# Altium footprint library Molex Footprints.PcbLib: 498 footprints (part 11 of 32)
Each footprint in its own frame and in the unit in brackets; x right, y up, seen from the top. Pads: shape width x height; smd on the part's side, far side on the other; paste and mask are expansions set on the pad; w line width, h text height; cw(c..) or ccw(c..) is an arc to the next point about the centre after c.
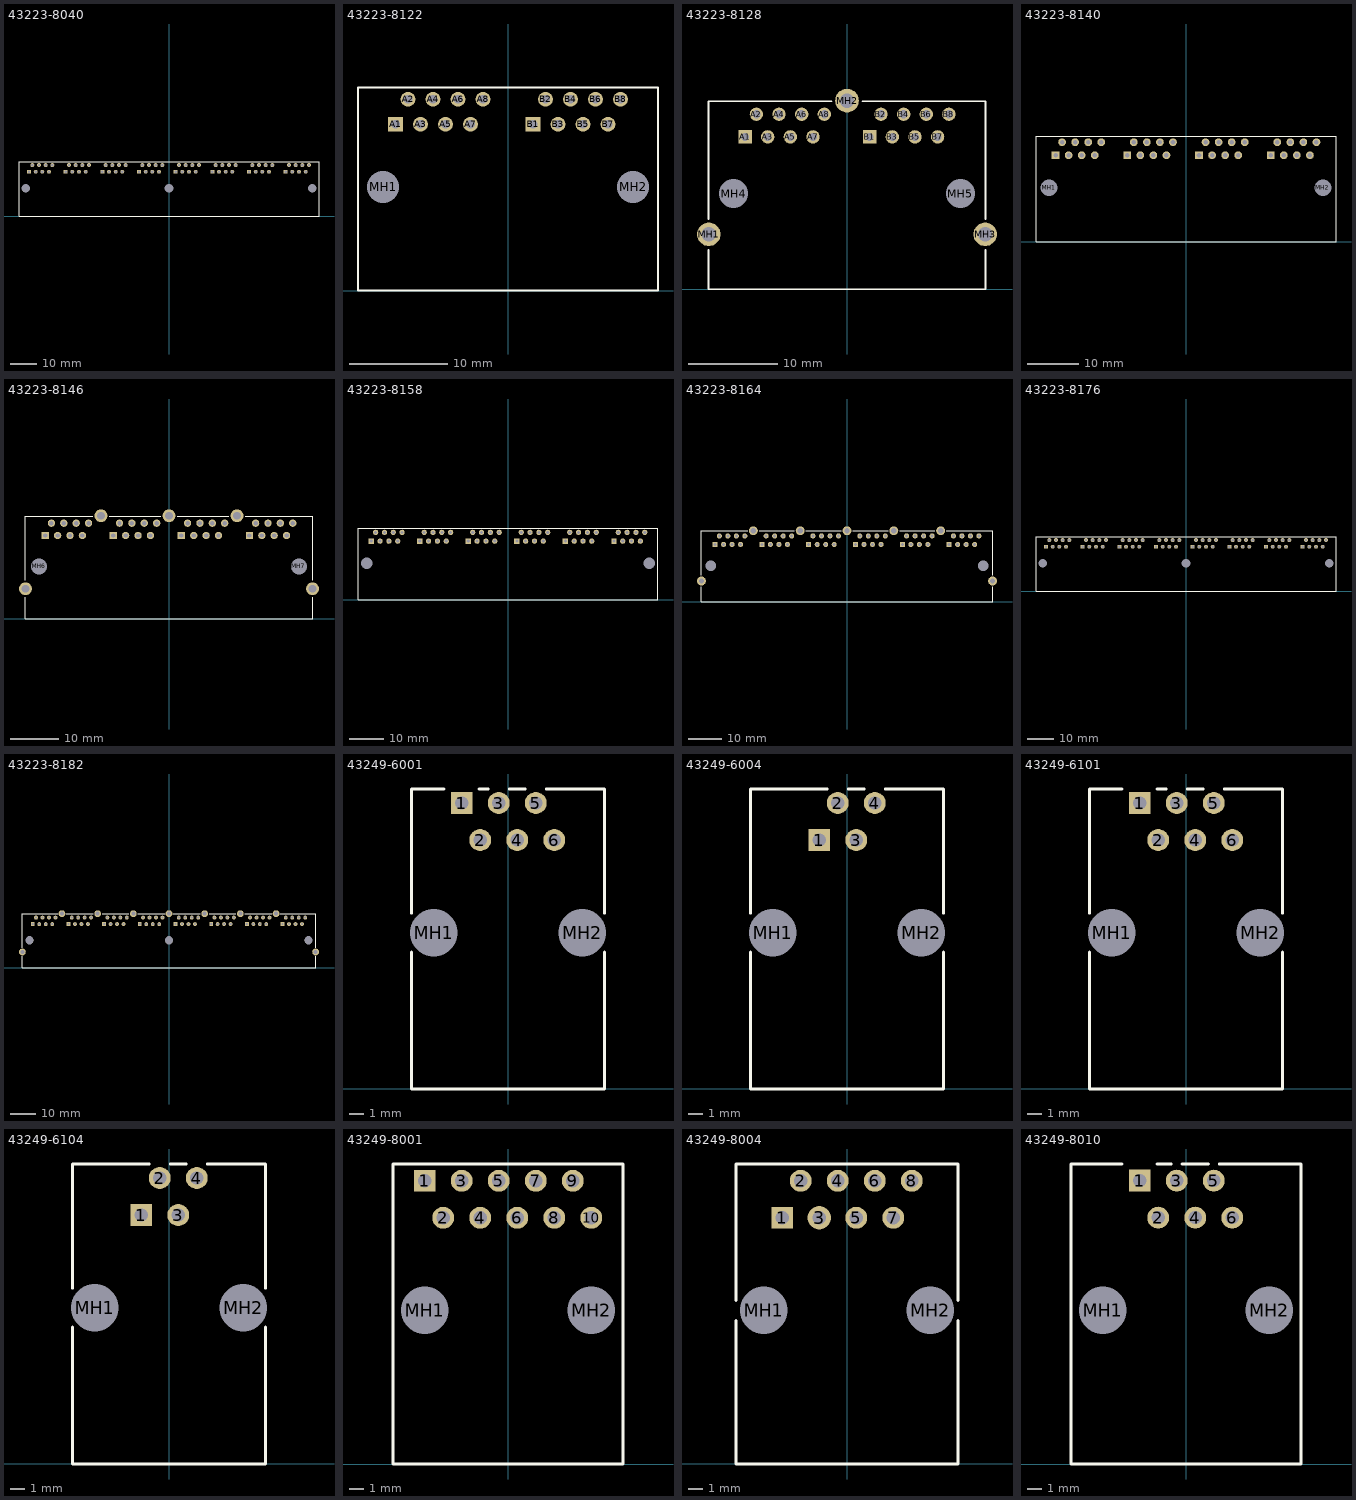
[diagram p10: the footprints below, top view; thin cyan lines are the x and y axes]

## 43223-8040 [mm] "Connector; PCB Jack, Thru-Hole; 8-Port, 8 Positions, 8 Loaded; Unshielded without Lightpipes; Right Angle"
height 12.83
pads (67):
  rect 1.5x1.5 hole 0.9: A1(-53.34,16.89) B1(-39.37,16.89) C1(-25.4,16.89) D1(-11.43,16.89) E1(2.54,16.89) F1(16.51,16.89) G1(30.48,16.89) H1(44.45,16.89)
  round 1.5 hole 0.9: A2(-52.07,19.43) A3(-50.8,16.89) A4(-49.53,19.43) A5(-48.26,16.89) A6(-46.99,19.43) A7(-45.72,16.89) A8(-44.45,19.43) B2(-38.1,19.43) B3(-36.83,16.89) B4(-35.56,19.43) B5(-34.29,16.89) B6(-33.02,19.43) B7(-31.75,16.89) B8(-30.48,19.43) C2(-24.13,19.43) C3(-22.86,16.89) C4(-21.59,19.43) C5(-20.32,16.89) C6(-19.05,19.43) C7(-17.78,16.89) C8(-16.51,19.43) D2(-10.16,19.43) D3(-8.89,16.89) D4(-7.62,19.43) D5(-6.35,16.89) D6(-5.08,19.43) D7(-3.81,16.89) D8(-2.54,19.43) E2(3.81,19.43) E3(5.08,16.89) E4(6.35,19.43) E5(7.62,16.89) E6(8.89,19.43) E7(10.16,16.89) E8(11.43,19.43) F2(17.78,19.43) F3(19.05,16.89) F4(20.32,19.43) F5(21.59,16.89) F6(22.86,19.43) F7(24.13,16.89) F8(25.4,19.43) G2(31.75,19.43) G3(33.02,16.89) G4(34.29,19.43) G5(35.56,16.89) G6(36.83,19.43) G7(38.1,16.89) G8(39.37,19.43) H2(45.72,19.43) H3(46.99,16.89) H4(48.26,19.43) H5(49.53,16.89) H6(50.8,19.43) H7(52.07,16.89) H8(53.34,19.43)
  round 2.95 hole 3.25 unplated: MH1(-54.61,10.54) MH2(0,10.54) MH3(54.61,10.54)
Top Overlay:
  lines w0.2: -57.15,0 57.15,0 57.15,20.63 -57.15,20.63 -57.15,0

## 43223-8122 [mm] "Connector; PCB Jack, Thru-Hole; 2-Port, 8 Positions, 8 Loaded; Unshielded without Lightpipes; Right Angle"
height 12.83
pads (18):
  rect 1.5x1.5 hole 0.9: A1(-11.43,16.89) B1(2.54,16.89)
  round 1.5 hole 0.9: A2(-10.16,19.43) A3(-8.89,16.89) A4(-7.62,19.43) A5(-6.35,16.89) A6(-5.08,19.43) A7(-3.81,16.89) A8(-2.54,19.43) B2(3.81,19.43) B3(5.08,16.89) B4(6.35,19.43) B5(7.62,16.89) B6(8.89,19.43) B7(10.16,16.89) B8(11.43,19.43)
  round 2.95 hole 3.25 unplated: MH1(-12.7,10.54) MH2(12.7,10.54)
Top Overlay:
  lines w0.2: -15.24,0 15.24,0 15.24,20.63 -15.24,20.63 -15.24,0

## 43223-8128 [mm] "Connector; PCB Jack, Thru-Hole; 2-Port, 8 Positions, 8 Loaded; Shielded without Lightpipes; Right Angle"
height 13.3
pads (21):
  rect 1.5x1.5 hole 0.9: A1(-11.43,17.07) B1(2.54,17.07)
  round 1.5 hole 0.9: A2(-10.16,19.61) A3(-8.89,17.07) A4(-7.62,19.61) A5(-6.35,17.07) A6(-5.08,19.61) A7(-3.81,17.07) A8(-2.54,19.61) B2(3.81,19.61) B3(5.08,17.07) B4(6.35,19.61) B5(7.62,17.07) B6(8.89,19.61) B7(10.16,17.07) B8(11.43,19.61)
  round 2.65 hole 1.6: MH1(-15.494,6.148) MH2(0,21.134) MH3(15.494,6.148)
  round 2.95 hole 3.25 unplated: MH4(-12.7,10.72) MH5(12.7,10.72)
Top Overlay:
  lines w0.2: -15.545,4.423 -15.545,0 15.545,0 15.545,4.423 ; -15.545,7.873 -15.545,21.08 -1.724,21.08 ; 1.724,21.08 15.545,21.08 15.545,7.873

## 43223-8140 [mm] "Connector; PCB Jack, Thru-Hole; 4-Port, 8 Positions, 8 Loaded; Unshielded without Lightpipes; Right Angle"
height 12.83
pads (34):
  rect 1.5x1.5 hole 0.9: A1(-25.4,16.89) B1(-11.43,16.89) C1(2.54,16.89) D1(16.51,16.89)
  round 1.5 hole 0.9: A2(-24.13,19.43) A3(-22.86,16.89) A4(-21.59,19.43) A5(-20.32,16.89) A6(-19.05,19.43) A7(-17.78,16.89) A8(-16.51,19.43) B2(-10.16,19.43) B3(-8.89,16.89) B4(-7.62,19.43) B5(-6.35,16.89) B6(-5.08,19.43) B7(-3.81,16.89) B8(-2.54,19.43) C2(3.81,19.43) C3(5.08,16.89) C4(6.35,19.43) C5(7.62,16.89) C6(8.89,19.43) C7(10.16,16.89) C8(11.43,19.43) D2(17.78,19.43) D3(19.05,16.89) D4(20.32,19.43) D5(21.59,16.89) D6(22.86,19.43) D7(24.13,16.89) D8(25.4,19.43)
  round 2.95 hole 3.25 unplated: MH1(-26.67,10.54) MH2(26.67,10.54)
Top Overlay:
  lines w0.2: -29.21,0 29.21,0 29.21,20.63 -29.21,20.63 -29.21,0

## 43223-8146 [mm] "Connector; PCB Jack, Thru-Hole; 4-Port, 8 Positions, 8 Loaded; Shielded without Lightpipes; Right Angle"
height 13.3
pads (39):
  rect 1.5x1.5 hole 0.9: A1(-25.4,17.07) B1(-11.43,17.07) C1(2.54,17.07) D1(16.51,17.07)
  round 1.5 hole 0.9: A2(-24.13,19.61) A3(-22.86,17.07) A4(-21.59,19.61) A5(-20.32,17.07) A6(-19.05,19.61) A7(-17.78,17.07) A8(-16.51,19.61) B2(-10.16,19.61) B3(-8.89,17.07) B4(-7.62,19.61) B5(-6.35,17.07) B6(-5.08,19.61) B7(-3.81,17.07) B8(-2.54,19.61) C2(3.81,19.61) C3(5.08,17.07) C4(6.35,19.61) C5(7.62,17.07) C6(8.89,19.61) C7(10.16,17.07) C8(11.43,19.61) D2(17.78,19.61) D3(19.05,17.07) D4(20.32,19.61) D5(21.59,17.07) D6(22.86,19.61) D7(24.13,17.07) D8(25.4,19.61)
  round 2.65 hole 1.6: MH1(-29.464,6.148) MH2(-13.97,21.134) MH3(0,21.134) MH4(13.97,21.134) MH5(29.464,6.148)
  round 2.95 hole 3.25 unplated: MH6(-26.67,10.72) MH7(26.67,10.72)
Top Overlay:
  lines w0.2: -29.515,4.423 -29.515,0 29.515,0 29.515,4.423 ; -29.515,7.873 -29.515,21.08 -15.694,21.08 ; -12.246,21.08 -1.724,21.08 ; 1.724,21.08 12.246,21.08 ; 15.694,21.08 29.515,21.08 29.515,7.873

## 43223-8158 [mm] "Connector; PCB Jack, Thru-Hole; 6-Port, 8 Positions, 8 Loaded; Unshielded without Lightpipes; Right Angle"
height 12.83
pads (50):
  rect 1.5x1.5 hole 0.9: A1(-39.37,16.89) B1(-25.4,16.89) C1(-11.43,16.89) D1(2.54,16.89) E1(16.51,16.89) F1(30.48,16.89)
  round 1.5 hole 0.9: A2(-38.1,19.43) A3(-36.83,16.89) A4(-35.56,19.43) A5(-34.29,16.89) A6(-33.02,19.43) A7(-31.75,16.89) A8(-30.48,19.43) B2(-24.13,19.43) B3(-22.86,16.89) B4(-21.59,19.43) B5(-20.32,16.89) B6(-19.05,19.43) B7(-17.78,16.89) B8(-16.51,19.43) C2(-10.16,19.43) C3(-8.89,16.89) C4(-7.62,19.43) C5(-6.35,16.89) C6(-5.08,19.43) C7(-3.81,16.89) C8(-2.54,19.43) D2(3.81,19.43) D3(5.08,16.89) D4(6.35,19.43) D5(7.62,16.89) D6(8.89,19.43) D7(10.16,16.89) D8(11.43,19.43) E2(17.78,19.43) E3(19.05,16.89) E4(20.32,19.43) E5(21.59,16.89) E6(22.86,19.43) E7(24.13,16.89) E8(25.4,19.43) F2(31.75,19.43) F3(33.02,16.89) F4(34.29,19.43) F5(35.56,16.89) F6(36.83,19.43) F7(38.1,16.89) F8(39.37,19.43)
  round 2.95 hole 3.25 unplated: MH1(-40.64,10.54) MH2(40.64,10.54)
Top Overlay:
  lines w0.2: -43.18,0 43.18,0 43.18,20.63 -43.18,20.63 -43.18,0

## 43223-8164 [mm] "Connector; PCB Jack, Thru-Hole; 6-Port, 8 Positions, 8 Loaded; Shielded without Lightpipes; Right Angle"
height 13.3
pads (57):
  rect 1.5x1.5 hole 0.9: A1(-39.37,17.07) B1(-25.4,17.07) C1(-11.43,17.07) D1(2.54,17.07) E1(16.51,17.07) F1(30.48,17.07)
  round 1.5 hole 0.9: A2(-38.1,19.61) A3(-36.83,17.07) A4(-35.56,19.61) A5(-34.29,17.07) A6(-33.02,19.61) A7(-31.75,17.07) A8(-30.48,19.61) B2(-24.13,19.61) B3(-22.86,17.07) B4(-21.59,19.61) B5(-20.32,17.07) B6(-19.05,19.61) B7(-17.78,17.07) B8(-16.51,19.61) C2(-10.16,19.61) C3(-8.89,17.07) C4(-7.62,19.61) C5(-6.35,17.07) C6(-5.08,19.61) C7(-3.81,17.07) C8(-2.54,19.61) D2(3.81,19.61) D3(5.08,17.07) D4(6.35,19.61) D5(7.62,17.07) D6(8.89,19.61) D7(10.16,17.07) D8(11.43,19.61) E2(17.78,19.61) E3(19.05,17.07) E4(20.32,19.61) E5(21.59,17.07) E6(22.86,19.61) E7(24.13,17.07) E8(25.4,19.61) F2(31.75,19.61) F3(33.02,17.07) F4(34.29,19.61) F5(35.56,17.07) F6(36.83,19.61) F7(38.1,17.07) F8(39.37,19.61)
  round 2.65 hole 1.6: MH1(-43.434,6.148) MH2(-27.94,21.134) MH3(-13.97,21.134) MH4(0,21.134) MH5(13.97,21.134) MH6(27.94,21.134) MH7(43.434,6.148)
  round 2.95 hole 3.25 unplated: MH8(-40.64,10.72) MH9(40.64,10.72)
Top Overlay:
  lines w0.2: -43.485,4.423 -43.485,0 43.485,0 43.485,4.423 ; -43.485,7.873 -43.485,21.08 -29.664,21.08 ; -26.216,21.08 -15.694,21.08 ; -12.246,21.08 -1.724,21.08 ; 1.724,21.08 12.246,21.08 ; 15.694,21.08 26.216,21.08 ; 29.664,21.08 43.485,21.08 43.485,7.873

## 43223-8176 [mm] "Connector; PCB Jack, Thru-Hole; 8-Port, 8 Positions, 8 Loaded; Unshielded without Lightpipes; Right Angle"
height 12.83
pads (67):
  rect 1.5x1.5 hole 0.9: A1(-53.34,16.89) B1(-39.37,16.89) C1(-25.4,16.89) D1(-11.43,16.89) E1(2.54,16.89) F1(16.51,16.89) G1(30.48,16.89) H1(44.45,16.89)
  round 1.5 hole 0.9: A2(-52.07,19.43) A3(-50.8,16.89) A4(-49.53,19.43) A5(-48.26,16.89) A6(-46.99,19.43) A7(-45.72,16.89) A8(-44.45,19.43) B2(-38.1,19.43) B3(-36.83,16.89) B4(-35.56,19.43) B5(-34.29,16.89) B6(-33.02,19.43) B7(-31.75,16.89) B8(-30.48,19.43) C2(-24.13,19.43) C3(-22.86,16.89) C4(-21.59,19.43) C5(-20.32,16.89) C6(-19.05,19.43) C7(-17.78,16.89) C8(-16.51,19.43) D2(-10.16,19.43) D3(-8.89,16.89) D4(-7.62,19.43) D5(-6.35,16.89) D6(-5.08,19.43) D7(-3.81,16.89) D8(-2.54,19.43) E2(3.81,19.43) E3(5.08,16.89) E4(6.35,19.43) E5(7.62,16.89) E6(8.89,19.43) E7(10.16,16.89) E8(11.43,19.43) F2(17.78,19.43) F3(19.05,16.89) F4(20.32,19.43) F5(21.59,16.89) F6(22.86,19.43) F7(24.13,16.89) F8(25.4,19.43) G2(31.75,19.43) G3(33.02,16.89) G4(34.29,19.43) G5(35.56,16.89) G6(36.83,19.43) G7(38.1,16.89) G8(39.37,19.43) H2(45.72,19.43) H3(46.99,16.89) H4(48.26,19.43) H5(49.53,16.89) H6(50.8,19.43) H7(52.07,16.89) H8(53.34,19.43)
  round 2.95 hole 3.25 unplated: MH1(-54.61,10.54) MH2(0,10.54) MH3(54.61,10.54)
Top Overlay:
  lines w0.2: -57.15,0 57.15,0 57.15,20.63 -57.15,20.63 -57.15,0

## 43223-8182 [mm] "Connector; PCB Jack, Thru-Hole; 8-Port, 8 Positions, 8 Loaded; Shielded without Lightpipes; Right Angle"
height 13.3
pads (76):
  rect 1.5x1.5 hole 0.9: A1(-53.34,17.07) B1(-39.37,17.07) C1(-25.4,17.07) D1(-11.43,17.07) E1(2.54,17.07) F1(16.51,17.07) G1(30.48,17.07) H1(44.45,17.07)
  round 1.6 hole 0.9: A2(-52.07,19.61)
  round 1.5 hole 0.9: A3(-50.8,17.07) A4(-49.53,19.61) A5(-48.26,17.07) A6(-46.99,19.61) A7(-45.72,17.07) A8(-44.45,19.61) B2(-38.1,19.61) B3(-36.83,17.07) B4(-35.56,19.61) B5(-34.29,17.07) B6(-33.02,19.61) B7(-31.75,17.07) B8(-30.48,19.61) C2(-24.13,19.61) C3(-22.86,17.07) C4(-21.59,19.61) C5(-20.32,17.07) C6(-19.05,19.61) C7(-17.78,17.07) C8(-16.51,19.61) D2(-10.16,19.61) D3(-8.89,17.07) D4(-7.62,19.61) D5(-6.35,17.07) D6(-5.08,19.61) D7(-3.81,17.07) D8(-2.54,19.61) E2(3.81,19.61) E3(5.08,17.07) E4(6.35,19.61) E5(7.62,17.07) E6(8.89,19.61) E7(10.16,17.07) E8(11.43,19.61) F2(17.78,19.61) F3(19.05,17.07) F4(20.32,19.61) F5(21.59,17.07) F6(22.86,19.61) F7(24.13,17.07) F8(25.4,19.61) G2(31.75,19.61) G3(33.02,17.07) G4(34.29,19.61) G5(35.56,17.07) G6(36.83,19.61) G7(38.1,17.07) G8(39.37,19.61) H2(45.72,19.61) H3(46.99,17.07) H4(48.26,19.61) H5(49.53,17.07) H6(50.8,19.61) H7(52.07,17.07) H8(53.34,19.61)
  round 2.65 hole 1.6: MH1(-57.404,6.148) MH2(-41.91,21.134) MH3(-27.94,21.134) MH4(-13.97,21.134) MH5(0,21.134) MH6(13.97,21.134) MH7(27.94,21.134) MH8(41.91,21.134) MH9(57.404,6.148)
  round 2.95 hole 3.25 unplated: MH10(-54.61,10.72) MH11(0,10.72) MH12(54.61,10.72)
Top Overlay:
  lines w0.2: -57.455,4.423 -57.455,0 57.455,0 57.455,4.423 ; -57.455,7.873 -57.455,21.08 -43.634,21.08 ; -40.186,21.08 -29.664,21.08 ; -26.216,21.08 -15.694,21.08 ; -12.246,21.08 -1.724,21.08 ; 1.724,21.08 12.246,21.08 ; 15.694,21.08 26.216,21.08 ; 29.664,21.08 40.186,21.08 ; 43.634,21.08 57.455,21.08 57.455,7.873

## 43249-6001 [mm] "Connector; PCB Jack, Thru-Hole; 1-Port, 6 Positions, 6 Loaded; Unshielded without Lightpipes; Right Angle"
height 12.83
pads (8):
  rect 1.5x1.5 hole 0.9: 1(-3.175,19.61)
  round 1.5 hole 0.9: 2(-1.905,17.07) 3(-0.635,19.61) 4(0.635,17.07) 5(1.905,19.61) 6(3.175,17.07)
  round 2.95 hole 3.25 unplated: MH1(-5.08,10.72) MH2(5.08,10.72)
Top Overlay:
  lines w0.2: -6.605,9.388 -6.605,0 6.605,0 6.605,9.388 ; -6.605,12.052 -6.605,20.57 -4.375,20.57 ; -1.975,20.57 -1.355,20.57 ; 0.085,20.57 1.185,20.57 ; 2.625,20.57 6.605,20.57 6.605,12.052

## 43249-6004 [mm] "Connector; PCB Jack, Thru-Hole; 1-Port, 6 Positions, 4 Loaded; Unshielded without Lightpipes; Right Angle"
height 12.83
pads (6):
  rect 1.5x1.5 hole 0.9: 1(-1.905,17.07)
  round 1.5 hole 0.9: 2(-0.635,19.61) 3(0.635,17.07) 4(1.905,19.61)
  round 2.95 hole 3.25 unplated: MH1(-5.08,10.72) MH2(5.08,10.72)
Top Overlay:
  lines w0.2: -6.605,9.388 -6.605,0 6.605,0 6.605,9.388 ; -6.605,12.052 -6.605,20.57 -1.355,20.57 ; 0.085,20.57 1.185,20.57 ; 2.625,20.57 6.605,20.57 6.605,12.052

## 43249-6101 [mm] "Connector; PCB Jack, Thru-Hole; 1-Port, 6 Positions, 6 Loaded; Unshielded without Lightpipes; Right Angle"
height 12.83
pads (8):
  rect 1.5x1.5 hole 0.9: 1(-3.175,19.61)
  round 1.5 hole 0.9: 2(-1.905,17.07) 3(-0.635,19.61) 4(0.635,17.07) 5(1.905,19.61) 6(3.175,17.07)
  round 2.95 hole 3.25 unplated: MH1(-5.08,10.72) MH2(5.08,10.72)
Top Overlay:
  lines w0.2: -6.605,9.388 -6.605,0 6.605,0 6.605,9.388 ; -6.605,12.052 -6.605,20.57 -4.375,20.57 ; -1.975,20.57 -1.355,20.57 ; 0.085,20.57 1.185,20.57 ; 2.625,20.57 6.605,20.57 6.605,12.052

## 43249-6104 [mm] "Connector; PCB Jack, Thru-Hole; 1-Port, 6 Positions, 4 Loaded; Unshielded without Lightpipes; Right Angle"
height 12.83
pads (6):
  rect 1.5x1.5 hole 0.9: 1(-1.905,17.07)
  round 1.5 hole 0.9: 2(-0.635,19.61) 3(0.635,17.07) 4(1.905,19.61)
  round 2.95 hole 3.25 unplated: MH1(-5.08,10.72) MH2(5.08,10.72)
Top Overlay:
  lines w0.2: -6.605,9.388 -6.605,0 6.605,0 6.605,9.388 ; -6.605,12.052 -6.605,20.57 -1.355,20.57 ; 0.085,20.57 1.185,20.57 ; 2.625,20.57 6.605,20.57 6.605,12.052

## 43249-8001 [mm] "Connector; PCB Jack, Thru-Hole; 1-Port, 8 Positions, 10 Loaded; Shielded without Lightpipes; Right Angle"
height 12.83
pads (12):
  rect 1.5x1.5 hole 0.9: 1(-5.715,19.43)
  round 1.5 hole 0.9: 2(-4.445,16.89) 3(-3.175,19.43) 4(-1.905,16.89) 5(-0.635,19.43) 6(0.635,16.89) 7(1.905,19.43) 8(3.175,16.89) 9(4.445,19.43) 10(5.715,16.89)
  round 2.95 hole 3.25 unplated: MH1(-5.715,10.54) MH2(5.715,10.54)
Top Overlay:
  lines w0.2: -7.875,0 7.875,0 7.875,20.58 -7.875,20.58 -7.875,0

## 43249-8004 [mm] "Connector; PCB Jack, Thru-Hole; 1-Port, 8 Positions, 8 Loaded; Unshielded without Lightpipes; Right Angle"
height 12.83
pads (10):
  rect 1.5x1.5 hole 0.9: 1(-4.445,16.89)
  round 1.5 hole 0.9: 2(-3.175,19.43) 4(-0.635,19.43) 5(0.635,16.89) 6(1.905,19.43) 7(3.175,16.89) 8(4.445,19.43)
  round 1.6 hole 0.9: 3(-1.905,16.89)
  round 2.95 hole 3.25 unplated: MH1(-5.715,10.54) MH2(5.715,10.54)
Top Overlay:
  lines w0.2: -7.62,9.853 -7.62,0 7.62,0 7.62,9.853 ; -7.62,11.227 -7.62,20.58 7.62,20.58 7.62,11.227

## 43249-8010 [mm] "Connector; PCB Jack, Thru-Hole; 1-Port, 8 Positions, 6 Loaded; Unshielded without Lightpipes; Right Angle"
height 12.83
pads (8):
  rect 1.5x1.5 hole 0.9: 1(-3.175,19.43)
  round 1.5 hole 0.9: 2(-1.905,16.89) 3(-0.635,19.43) 4(0.635,16.89) 5(1.905,19.43) 6(3.175,16.89)
  round 2.95 hole 3.25 unplated: MH1(-5.715,10.54) MH2(5.715,10.54)
Top Overlay:
  lines w0.2: -4.375,20.57 -7.875,20.57 -7.875,0 7.875,0 7.875,20.57 2.28,20.57 ; -1.975,20.57 -1.01,20.57 ; -0.26,20.57 1.53,20.57